# Altium footprint library XD16.PcbLib: 1 footprints
Each footprint in its own frame and in the unit in brackets; x right, y up, seen from the top. Pads: shape width x height; smd on the part's side, far side on the other; paste and mask are expansions set on the pad; w line width, h text height; cw(c..) or ccw(c..) is an arc to the next point about the centre after c.
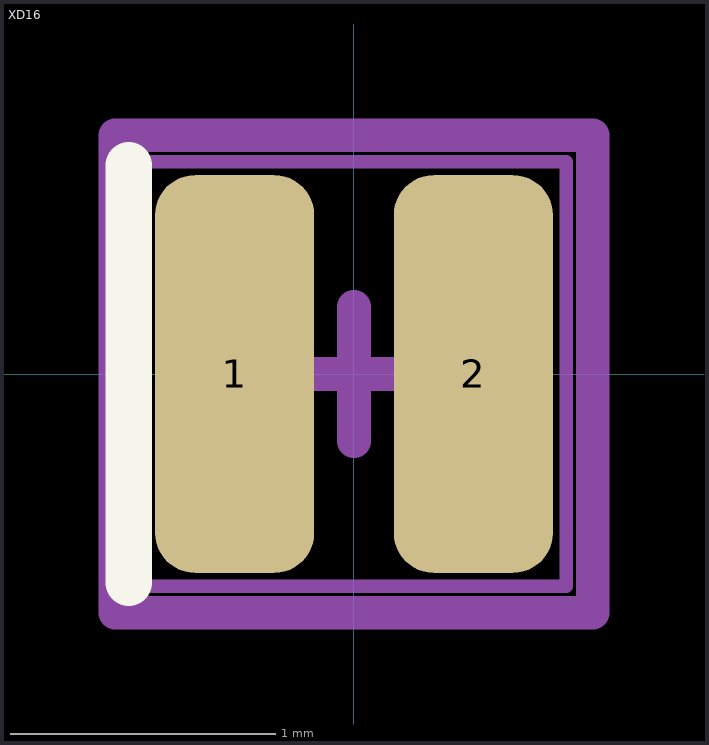
[diagram p0: the footprint, top view; thin cyan lines are the x and y axes]

## XD16 [mm]
height 1.4
pads (2):
  rrect50% 0.6x1.5 smd paste-0.15 mask+0: 1(-0.45,0) 2(0.45,0)
Top Overlay:
  lines w0.175: -0.85,-0.787 -0.85,0.788
Mechanical 2:
  lines w0.051: -0.8,-0.8 -0.8,0.8 0.8,0.8 0.8,-0.8 -0.8,-0.8
Mechanical 4:
  lines w0.127: -0.254,0 0.254,0 ; 0,-0.254 0,0.254 ; -0.9,-0.9 -0.9,0.9 0.9,0.9 0.9,-0.9 -0.9,-0.9
3D body "XD16 3D.stp": height 0.7, standoff 0, extent -0.8,-0.8 0.8,0.8